# EAGLE library part TXS0102_SM8 (library Interface)
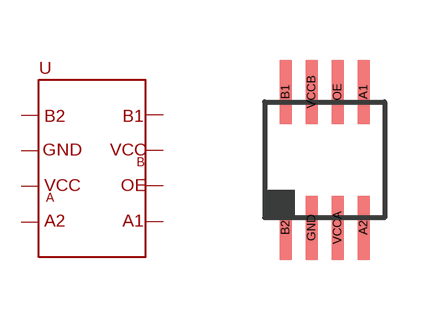
[diagram p2: symbol with the pads of SM8; footprint SM8]

Designator prefix -

## TXS0102_SM8  [SM8]
A1  A1
A2  A2
B1  B1
B2  B2
GND  GND
OE  OE
VCCA  VCCA
VCCB  VCCB

## Footprint SM8 (pad centres in mm)
smd 0.3 x 1.6: A1 0.975,1.7; A2 0.975,-1.7; B1 -0.975,1.7; B2 -0.975,-1.7; GND -0.325,-1.7; OE 0.325,1.7; VCCA 0.325,-1.7; VCCB -0.325,1.7